# Altium footprint library Passive.PcbLib: 57 footprints (part 1 of 4)
Each footprint in its own frame and in the unit in brackets; x right, y up, seen from the top. Pads: shape width x height; smd on the part's side, far side on the other; paste and mask are expansions set on the pad; w line width, h text height; cw(c..) or ccw(c..) is an arc to the next point about the centre after c.
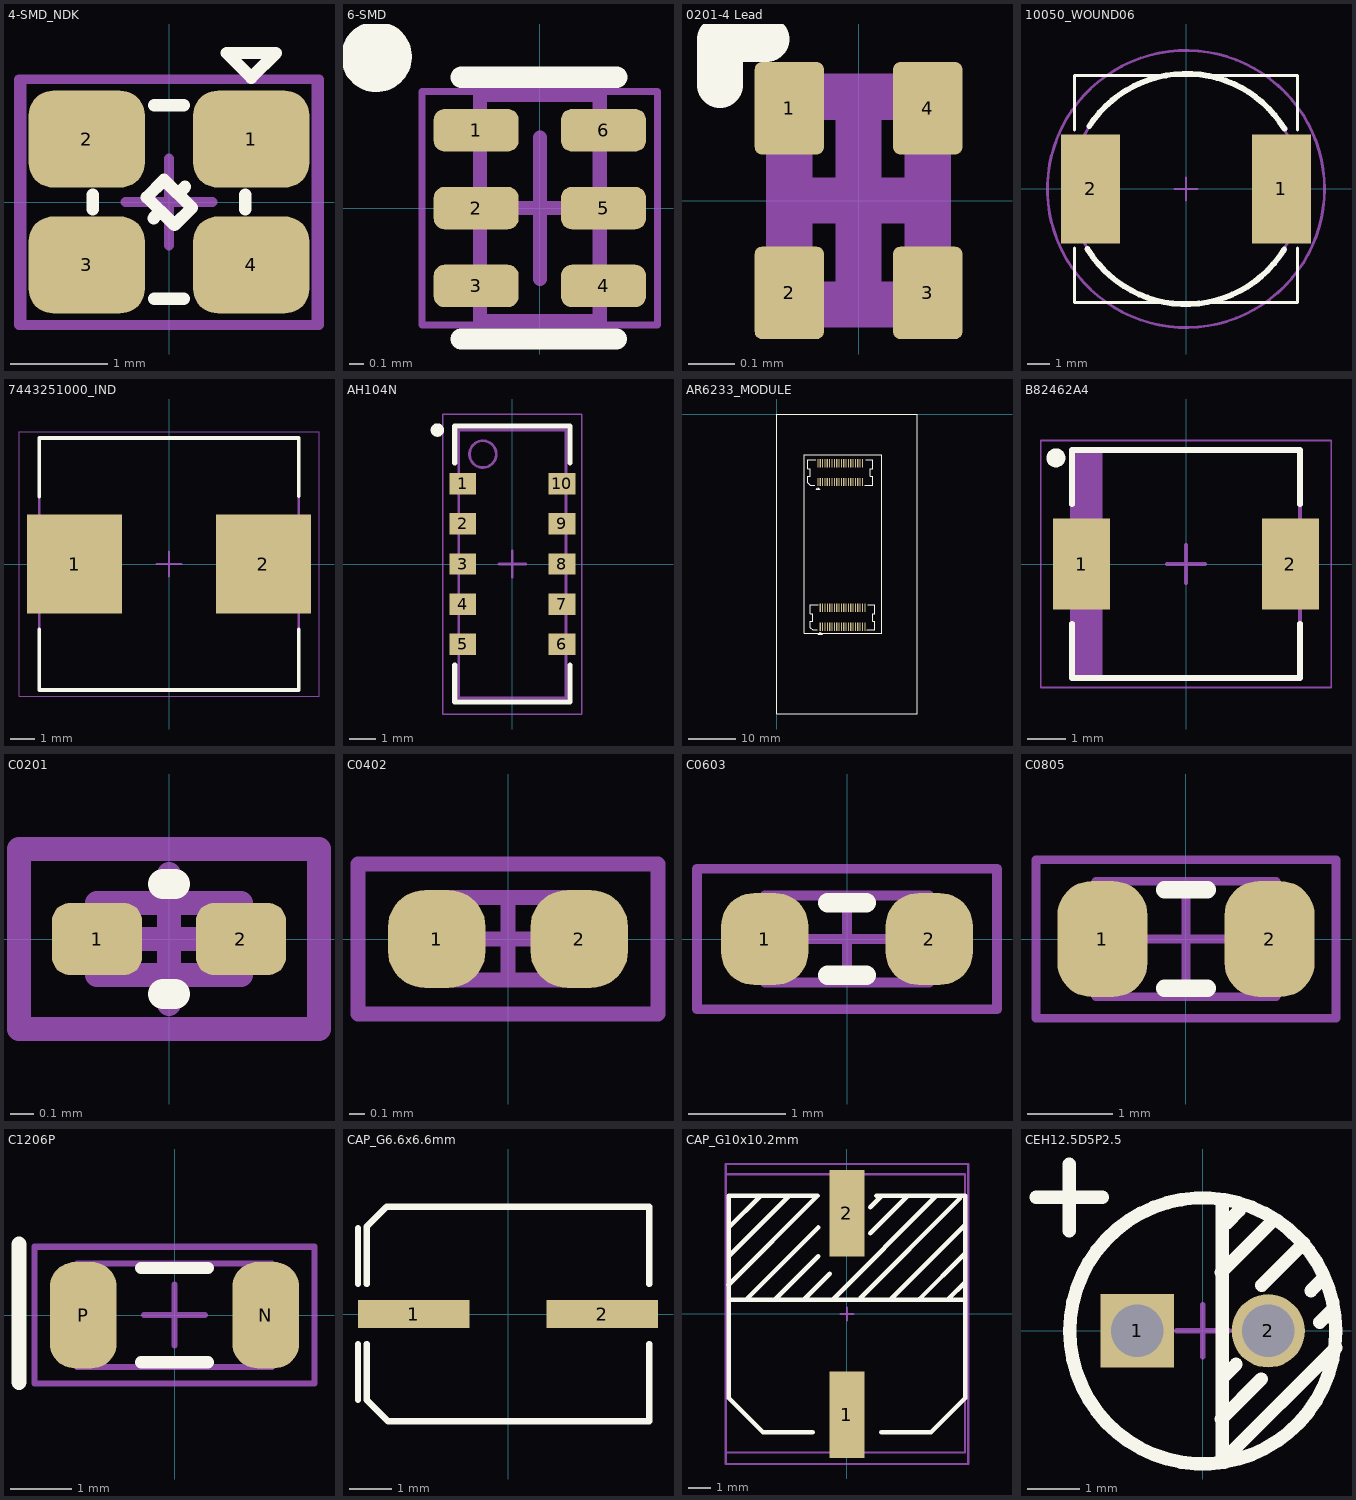
[diagram p0: the footprints below, top view; thin cyan lines are the x and y axes]

## 4-SMD_NDK [mm]
pads (4):
  rrect50% 1.2x1 smd: 1(0.85,0.65) 2(-0.85,0.65) 3(-0.85,-0.65) 4(0.85,-0.65)
Top Overlay:
  lines w0.127: -0.787,-0.076 -0.787,0.076 ; -0.159,-0.167 -0.087,-0.095 ; -0.152,-1 0.152,-1 ; -0.152,1 0.152,1 ; 0.093,0.085 0.165,0.157 ; 0.787,-0.076 0.787,0.076 ; -0.23,0.049 -0.051,0.229 0.237,-0.059 0.057,-0.238 -0.23,0.049 ; 0.596,1.539 0.85,1.285 1.104,1.539 0.596,1.539
Mechanical 13:
  lines w0.1: -1.524,-1.27 1.524,-1.27 1.524,1.27 -1.524,1.27 -1.524,-1.27
  text ".Designator" at -1.778,0.635 h0.5
Mechanical 15:
  lines w0.1: -0.45,0 0.45,0 ; 0,-0.45 0,0.45 ; -1.55,-1.27 1.55,-1.27 1.55,1.27 -1.55,1.27 -1.55,-1.27
3D body: height 0.55, standoff 0, extent -1.524,-1.27 1.524,1.27

## 6-SMD [mm]
height 0.8
pads (6):
  rrect50% 0.6x0.3 smd mask+0.07: 1(-0.45,0.55) 2(-0.45,0) 3(-0.45,-0.55) 4(0.45,-0.55) 5(0.45,0) 6(0.45,0.55)
Top Overlay:
  circle w0.25: c-1.155,1.07 r0.125
  lines w0.15: -0.558,-0.925 0.542,-0.925 ; -0.556,0.925 0.544,0.925
Mechanical 13:
  lines w0.1: -0.424,-0.8 0.423,-0.8 0.423,0.8 -0.424,0.8 -0.424,-0.8
Mechanical 15:
  lines w0.05: -0.834,-0.825 0.83,-0.825 0.83,0.825 -0.834,0.825 -0.834,-0.825
  lines w0.1: -0.5,0 0.5,0 ; 0,-0.5 0,0.5
3D body: height 0.8, standoff 0.2, extent -0.424,-0.8 0.423,0.8

## 0201-4 Lead [mm]
height 0.25
pads (4):
  rrect20% 0.15x0.2 smd mask+0.025: 1(-0.15,0.2) 2(-0.15,-0.2) 3(0.15,-0.2) 4(0.15,0.2)
Top Overlay:
  lines w0.1: -0.3,0.25 -0.3,0.35 -0.2,0.35
Mechanical 13:
  lines w0.1: -0.15,-0.225 0.15,-0.225 0.15,0.225 -0.15,0.225 -0.15,-0.225
  text ".Designator" at -1.565,0.65 h0.5
Mechanical 15:
  lines w0.1: -0.15,0 0.15,0 ; 0,-0.225 0,0.225
3D body: height 0.25, standoff 0, extent -0.15,-0.225 0.15,0.225

## 10050_WOUND06 [mm]
pads (2):
  rect 2.6x4.8 smd: 1(4.2,0) 2(-4.2,0)
Top Overlay:
  lines w0.127: -4.9,-2.6 -4.9,-5 4.9,-5 4.9,-2.6 ; -4.9,2.6 -4.9,5 4.9,5 4.9,2.6
  lines w0.254: -4.331,-2.646 ccw(c0,0) 4.318,-2.667 ; -4.261,2.757 cw(c0,0) 4.331,2.646
Mechanical 13:
  circle w0.127: c-0.01,-0.001 r5.061
  text ".Designator" at -1.66,1.499 h0.5
Mechanical 15:
  circle w0.127: c0,-0.001 r6.096
  lines w0.1: -0.5,0 0.5,0 ; 0,-0.5 0,0.5
3D body: height 5, standoff 0, extent -4.97,-4.99 4.991,4.99

## 7443251000_IND [mm] "Molded Inductor, 2-Leads, Body 10,50x10,20mm, IPC Medium Density"
height 4.7
pads (2):
  rect 3.85x4 smd: 1(-3.825,0) 2(3.825,0)
Top Overlay:
  lines w0.15: -5.25,-2.65 -5.25,-5.1 5.25,-5.1 5.25,-2.65 ; -5.25,2.725 -5.25,5.1 5.25,5.1 5.25,2.75
Mechanical 13:
  lines w0.1: -5.25,-5.1 -5.25,5.1 5.25,5.1 5.25,-5.1 -5.25,-5.1
Mechanical 15:
  lines w0.05: -6.075,-5.35 -6.075,5.35 6.075,5.35 6.075,-5.35 -6.075,-5.35
  lines w0.1: -0.5,0 0.5,0 ; 0,-0.5 0,0.5
3D body: height 4.7, standoff 0, extent -5.25,-5.1 5.25,5.1

## AH104N [mm]
height 1
pads (10):
  rect 1x0.8 smd mask+0.2: 1(-1.85,3) 2(-1.85,1.5) 3(-1.85,0) 4(-1.85,-1.5) 5(-1.85,-3) 6(1.85,-3) 7(1.85,-1.5) 8(1.85,0) 9(1.85,1.5) 10(1.85,3)
Top Overlay:
  circle w0.25: c-2.8,5 r0.125
  lines w0.2: -2.15,-3.775 -2.15,-5.15 -0.025,-5.15 ; -2.15,3.775 -2.15,5.15 -0.025,5.15 ; 0.025,-5.15 2.15,-5.15 2.15,-3.775 ; 0.025,5.15 2.15,5.15 2.15,3.775
Mechanical 13:
  circle w0.1: c-1.1,4.1 r0.5
  lines w0.1: -2,-5 -2,5 2,5 2,-5 -2,-5
  text ".Designator" at -0.051,2.06 h0.5
Mechanical 15:
  lines w0.05: -2.6,-5.6 -2.6,5.6 2.6,5.6 2.6,-5.6 -2.6,-5.6
  lines w0.1: -0.5,0 0.5,0 ; 0,-0.5 0,0.5
3D body: height 1, standoff 0.02, extent -2,-5 2,5

## AR6233_MODULE [mm] "AR6233_MODULE"
pads (80):
  rect 0.25x1.8 smd: 1(8.8,-14.5) 1(9.308,-45.361) 2(8.8,-10.5) 2(9.308,-41.361) 3(9.3,-14.5) 3(9.808,-45.361) 4(9.3,-10.5) 4(9.808,-41.361) 5(9.8,-14.5) 5(10.308,-45.361) 6(9.8,-10.5) 6(10.308,-41.361) 7(10.3,-14.5) 7(10.808,-45.361) 8(10.3,-10.5) 8(10.808,-41.361) 9(10.8,-14.5) 9(11.308,-45.361) 10(10.8,-10.5) 10(11.308,-41.361) 11(11.3,-14.5) 11(11.808,-45.361) 12(11.3,-10.5) 12(11.808,-41.361) 13(11.8,-14.5) 13(12.308,-45.361) 14(11.8,-10.5) 14(12.308,-41.361) 15(12.3,-14.5) 15(12.808,-45.361) 16(12.3,-10.5) 16(12.808,-41.361) 17(12.8,-14.5) 17(13.308,-45.361) 18(12.8,-10.5) 18(13.308,-41.361) 19(13.3,-14.5) 19(13.808,-45.361) 20(13.3,-10.5) 20(13.808,-41.361) 21(13.8,-14.5) 21(14.308,-45.361) 22(13.8,-10.5) 22(14.308,-41.361) 23(14.3,-14.5) 23(14.808,-45.361) 24(14.3,-10.5) 24(14.808,-41.361) 25(14.8,-14.5) 25(15.308,-45.361) 26(14.8,-10.5) 26(15.308,-41.361) 27(15.3,-14.5) 27(15.808,-45.361) 28(15.3,-10.5) 28(15.808,-41.361) 29(15.8,-14.5) 29(16.308,-45.361) 30(15.8,-10.5) 30(16.308,-41.361) 31(16.3,-14.5) 31(16.808,-45.361) 32(16.3,-10.5) 32(16.808,-41.361) 33(16.8,-14.5) 33(17.308,-45.361) 34(16.8,-10.5) 34(17.308,-41.361) 35(17.3,-14.5) 35(17.808,-45.361) 36(17.3,-10.5) 36(17.808,-41.361) 37(17.8,-14.5) 37(18.308,-45.361) 38(17.8,-10.5) 38(18.308,-41.361) 39(18.3,-14.5) 39(18.808,-45.361) 40(18.3,-10.5) 40(18.808,-41.361)
Top Overlay:
  lines w0.127: 5.93,-46.79 22.44,-46.79 22.44,-8.69 5.93,-8.69 5.93,-46.79
  lines w0.152: 8.15,-15.2 7.15,-15.2 6.65,-14.7 6.65,-13.3 7.15,-13.3 7.15,-11.7 6.65,-11.7 6.65,-9.8 8.35,-9.8 ; 8.658,-46.061 7.658,-46.061 7.158,-45.561 7.158,-44.161 7.658,-44.161 7.658,-42.561 7.158,-42.561 7.158,-40.661 8.858,-40.661 ; 18.75,-15.2 20.45,-15.2 20.45,-13.3 19.95,-13.3 19.95,-11.7 20.45,-11.7 20.45,-9.8 18.95,-9.8 ; 19.258,-46.061 20.958,-46.061 20.958,-44.161 20.458,-44.161 20.458,-42.561 20.958,-42.561 20.958,-40.661 19.458,-40.661 ; 8.4,-16.1 8.8,-15.7 9.2,-16.1 8.4,-16.1 ; 8.908,-46.961 9.308,-46.561 9.708,-46.961 8.908,-46.961
  lines w0.254: 0,-64 30,-64 30,0 0,0 0,-64
Mechanical 13:
  text ".Designator" at 12.065,-26.851 h0.5

## B82462A4 [mm] "SMT power inductor"
height 3
pads (2):
  rect 1.5x2.4 smd: 1(-2.75,0) 2(2.75,0)
Top Overlay:
  circle w0.25: c-3.427,2.794 r0.125
  lines w0.15: -3,-1.575 -3,-3 3,-3 3,-1.575 ; -3,1.575 -3,3 3,3 3,1.575
Mechanical 13:
  rectangle: -3,-3 -2.193,3
  lines w0.1: -3,-3 3,-3 3,3 -3,3 -3,-3
  text ".Designator" at -0.201,1.585 h0.5
Mechanical 15:
  lines w0.05: -3.825,-3.25 3.825,-3.25 3.825,3.25 -3.825,3.25 -3.825,-3.25
  lines w0.1: -0.5,0 0.5,0 ; 0,-0.5 0,0.5
3D body: height 3, standoff 0, extent -3,-3 3,3

## C0201 [mil]
pads (2):
  rrect50% 15x12 smd: 1(-12,0) 2(12,0)
Top Overlay:
  lines w5: -1,-9.15 1,-9.15 ; -1,9.15 1,9.15
Mechanical 13:
  lines w3.94: -12,-6 -12,6 12,6 12,-6 -12,-6
  text ".Designator" at -70,20 h19.68
Mechanical 15:
  lines w3.94: -10.83,0 10.83,0 ; 0,-10.83 0,10.83 ; -25,-15 -25,15 25,15 25,-15 -25,-15
3D body: height 11.81, standoff 0, extent -11.83,-6 11.8,5.8

## C0402 [mm] "Chip Resistor, 2-Leads, Body 1.0x0.5mm, IPC High Density"
height 0.35
pads (2):
  rrect75% 0.65x0.65 smd: 1(-0.475,0) 2(0.475,0)
Mechanical 13:
  lines w0.1: -0.525,-0.275 -0.525,0.275 0.525,0.275 0.525,-0.275 -0.525,-0.275
  text ".Designator" at -1,0.5 h0.5
Mechanical 15:
  lines w0.1: -0.275,0 0.275,0 ; 0,-0.275 0,0.275 ; -1,-0.5 -1,0.5 1,0.5 1,-0.5 -1,-0.5
3D body: height 0.5, standoff 0, extent -0.495,-0.26 0.505,0.24

## C0603 [mm] "Chip Resistor, 2-Leads, Body 1.6x0.8mm, IPC Medium Density"
height 0.55
pads (2):
  rrect75% 0.9x0.95 smd: 1(-0.85,0) 2(0.85,0)
Top Overlay:
  lines w0.2: -0.2,-0.375 0.2,-0.375 ; -0.2,0.375 0.2,0.375
Mechanical 13:
  lines w0.1: -0.85,-0.45 -0.85,0.45 0.85,0.45 0.85,-0.45 -0.85,-0.45
  text ".Designator" at -1.1,0.7 h0.5
Mechanical 15:
  lines w0.1: -0.45,0 0.45,0 ; 0,-0.45 0,0.45 ; -1.55,-0.725 -1.55,0.725 1.55,0.725 1.55,-0.725 -1.55,-0.725
3D body: height 0.6, standoff 0, extent -0.805,-0.405 0.795,0.395

## C0805 [mm] "Chip Resistor, 2-Leads, Body 2.0x1.3mm, IPC Medium Density"
height 0.6
pads (2):
  rrect75% 1.05x1.35 smd: 1(-0.975,0) 2(0.975,0)
Top Overlay:
  lines w0.2: -0.25,-0.575 0.25,-0.575 ; -0.25,0.575 0.25,0.575
Mechanical 13:
  lines w0.1: -1.05,-0.675 -1.05,0.675 1.05,0.675 1.05,-0.675 -1.05,-0.675
  text ".Designator" at -1.3,0.9 h0.5
Mechanical 15:
  lines w0.1: -0.5,0 0.5,0 ; 0,-0.5 0,0.5 ; -1.75,-0.925 -1.75,0.925 1.75,0.925 1.75,-0.925 -1.75,-0.925
3D body: height 0.78, standoff 0, extent -1.01,-0.635 0.99,0.615

## C1206P [mm] "Chip Resistor, 2-Leads, Body 3.1x1.6mm, IPC Medium Density"
height 0.65
pads (2):
  rrect75% 1.1x1.75 smd: N(1.5,0) P(-1.5,0)
Top Overlay:
  lines w0.2: -0.55,-0.775 0.55,-0.775 ; -0.55,0.775 0.55,0.775
  lines w0.254: -2.557,-1.1 -2.557,1.164
Mechanical 13:
  lines w0.1: -1.6,-0.85 -1.6,0.85 1.6,0.85 1.6,-0.85 -1.6,-0.85
  text ".Designator" at -1.85,1.15 h0.5
Mechanical 15:
  lines w0.1: -0.5,0 0.5,0 ; 0,-0.5 0,0.5 ; -2.3,-1.125 -2.3,1.125 2.3,1.125 2.3,-1.125 -2.3,-1.125
3D body: height 0.65, standoff 0, extent -1.6,-0.85 1.6,0.85

## CAP_G6.6x6.6mm [mm]
pads (2):
  rect 2.6x0.65 smd: 1(-2.2,0) 2(2.2,0)
Top Overlay:
  lines w0.15: -3.5,-2 -3.5,-0.7 ; -3.5,0.7 -3.5,2 ; -3.3,-0.7 -3.3,-2 -2.8,-2.5 ; -3.3,0.7 -3.3,2.034 -2.834,2.5 3.3,2.5 3.3,0.7 ; 3.3,-0.7 3.3,-2.5 -2.8,-2.5 ; -3.05,-2.25 -3.05,-2.25 ; -3.05,-2.25 -2.8,-2.5
Mechanical 13:
  text ".Designator" at -1.585,1.049 h0.5

## CAP_G10x10.2mm [mil]
pads (2):
  rect 60x150 smd: 1(0,-175) 2(0,175)
Top Overlay:
  lines w8: -205.31,50.59 -51.18,204.72 -204.72,204.72 -204.72,-145.67 -145.67,-204.72 -59.06,-204.72 ; -204.72,25 204.72,25 ; -204.72,100 -100,204.72 ; -204.72,150 -149.72,205 -150,205 ; -175,25 -50,150 ; -125,25 -50,100 ; -75,25 -30,70 ; -25,25 154.86,204.86 ; 22.64,27.36 195,199.72 ; 40,140 105,205 ; 40.14,184.86 60,204.72 ; 51.18,204.72 204.72,204.72 ; 59.06,-204.72 145.67,-204.72 ; 77.36,27.64 204.72,155 ; 124.86,25.14 204.86,105.14 ; 174.86,25.14 204.86,55.14 ; 145.67,-204.72 204.72,-145.67 ; 145.67,-204.72 204.72,-145.67 ; 204.72,-145.67 204.72,204.72 ; 204.72,-145.67 204.72,204.72
Mechanical 13:
  lines w3.94: -210,-240 -210,242.12 204.72,242.12 204.72,-240 -210,-240
  text ".Designator" at -67.99,26.5 h19.68
Mechanical 15:
  lines w3.94: -10.83,0 10.83,0 ; 0,-10.83 0,10.83 ; -210,-260 210,-260 210,260 -210,260 -210,-260
3D body: height 669.3, standoff 0, extent -206.69,-242.13 206.7,242.12

## CEH12.5D5P2.5 [mm] "Electrolytic capacitor 12.5x5x2.5 mm"
height 12.5
pads (2):
  rect 1.4x1.4 hole 1: 1(-1.25,0)
  round 1.4 hole 1: 2(1.25,0)
Top Overlay:
  circle w0.254: c0,0 r2.54
  lines w0.254: -3.185,2.55 -1.915,2.55 ; -2.55,1.915 -2.55,3.185 ; 0.354,-1.684 1.119,-0.919 ; 0.354,1.116 1.369,2.131 ; 0.37,-2.5 0.37,2.5 ; 0.37,-0.9 0.635,-0.635 ; 0.384,-2.484 2.544,-0.324 ; 0.465,2.065 0.7,2.3 ; 1.127,0.873 1.927,1.673 ; 2.065,0.765 2.3,1 ; 2.235,0.165 2.47,0.4
Mechanical 13:
  circle w0.127: c0,0 r2.54
  text ".Designator" at -1.6,0.8 h0.5
Mechanical 15:
  circle w0.127: c0,0 r2.54
  lines w0.1: -0.5,0.001 0.5,0.001 ; 0,-0.499 0,0.501
3D body: height 12.5, standoff 0, extent -2.5,-2.5 2.54,2.5